# Altium footprint library SN74AXC8T245.PcbLib: 1 footprints
Each footprint in its own frame and in the unit in brackets; x right, y up, seen from the top. Pads: shape width x height; smd on the part's side, far side on the other; paste and mask are expansions set on the pad; w line width, h text height; cw(c..) or ccw(c..) is an arc to the next point about the centre after c.
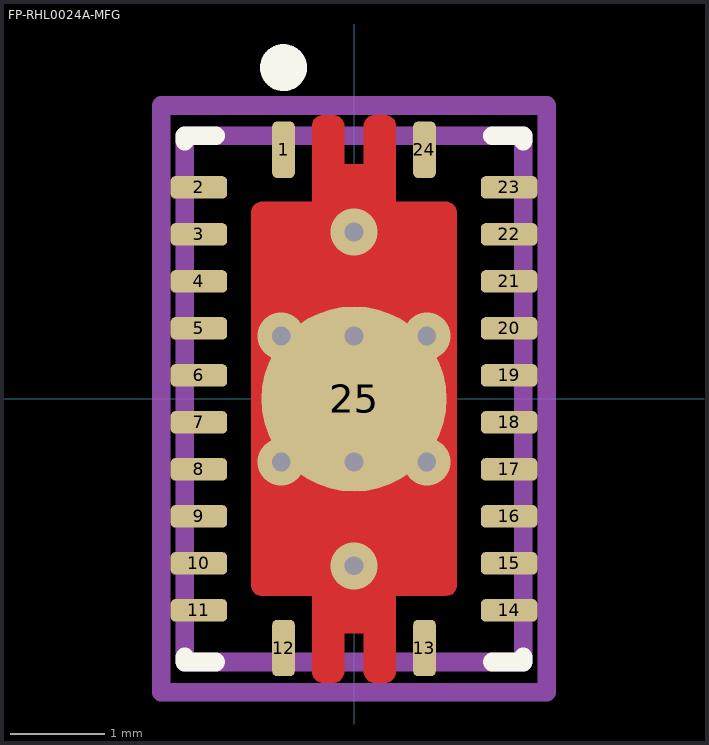
[diagram p0: the footprint, top view; thin cyan lines are the x and y axes]

## FP-RHL0024A-MFG [mm]
pads (25):
  rrect42% 0.24x0.6 smd paste+0 mask+0: 1(-0.75,2.65) 12(-0.75,-2.65) 13(0.75,-2.65) 24(0.75,2.65)
  rrect42% 0.6x0.24 smd paste+0 mask+0: 2(-1.65,2.25) 3(-1.65,1.75) 4(-1.65,1.25) 5(-1.65,0.75) 6(-1.65,0.25) 7(-1.65,-0.25) 8(-1.65,-0.75) 9(-1.65,-1.25) 10(-1.65,-1.75) 11(-1.65,-2.25) 14(1.65,-2.25) 15(1.65,-1.75) 16(1.65,-1.25) 17(1.65,-0.75) 18(1.65,-0.25) 19(1.65,0.25) 20(1.65,0.75) 21(1.65,1.25) 22(1.65,1.75) 23(1.65,2.25)
  round 1.971 smd paste-1000 mask-1000: 25(0,0)
via 0.775,-0.67 diameter 0.5 hole 0.2
via 0,-0.67 diameter 0.5 hole 0.2
via -0.775,-0.67 diameter 0.5 hole 0.2
via 0.775,0.67 diameter 0.5 hole 0.2
via 0,0.67 diameter 0.5 hole 0.2
via -0.775,0.67 diameter 0.5 hole 0.2
via 0,-1.775 diameter 0.5 hole 0.2
via 0,1.775 diameter 0.5 hole 0.2
Top Layer:
  region: -1.095,-1.975 -1.095,1.975 -1.095,1.999 -1.077,2.043 -1.043,2.077 -0.999,2.095 -0.975,2.095 -0.445,2.095 -0.445,2.9 -0.445,2.924 -0.427,2.968 -0.393,3.002 -0.349,3.02 -0.325,3.02 -0.225,3.02 -0.201,3.02 -0.157,3.002 -0.123,2.968 -0.105,2.924 -0.105,2.9 -0.105,2.495 0.105,2.495 0.105,2.9 0.105,2.924 0.123,2.968 0.157,3.002 0.201,3.02 0.225,3.02 0.325,3.02 0.349,3.02 0.393,3.002 0.427,2.968 0.445,2.924 0.445,2.9 0.445,2.095 0.975,2.095 0.999,2.095 1.043,2.077 1.077,2.043 1.095,1.999 1.095,1.975 1.095,-1.975 1.095,-1.999 1.077,-2.043 1.043,-2.077 0.999,-2.095 0.975,-2.095 0.445,-2.095 0.445,-2.9 0.445,-2.924 0.427,-2.968 0.393,-3.002 0.349,-3.02 0.325,-3.02 0.225,-3.02 0.201,-3.02 0.157,-3.002 0.123,-2.968 0.105,-2.924 0.105,-2.9 0.105,-2.495 -0.105,-2.495 -0.105,-2.9 -0.105,-2.924 -0.123,-2.968 -0.157,-3.002 -0.201,-3.02 -0.225,-3.02 -0.325,-3.02 -0.349,-3.02 -0.393,-3.002 -0.427,-2.968 -0.445,-2.924 -0.445,-2.9 -0.445,-2.095 -0.975,-2.095 -0.999,-2.095 -1.043,-2.077 -1.077,-2.043 -1.095,-1.999
Top Overlay:
  circle w0.25: c-0.75,3.525 r0.125
  lines w0.2: -1.8,-2.745 -1.8,-2.8 -1.47,-2.8 ; -1.8,2.745 -1.8,2.8 -1.47,2.8 ; 1.47,-2.8 1.8,-2.8 1.8,-2.745 ; 1.47,2.8 1.8,2.8 1.8,2.745
Top Paste:
  drawing of 8 lines, arcs and shapes, not listed
Top Solder:
  region: -1.025,-1.975 -1.025,1.975 -1.025,1.985 -1.017,2.003 -1.003,2.017 -0.985,2.025 -0.975,2.025 -0.375,2.025 -0.375,2.9 -0.375,2.91 -0.367,2.928 -0.353,2.942 -0.335,2.95 -0.325,2.95 -0.225,2.95 -0.215,2.95 -0.197,2.942 -0.183,2.928 -0.175,2.91 -0.175,2.9 -0.175,2.425 0.175,2.425 0.175,2.9 0.175,2.91 0.183,2.928 0.197,2.942 0.215,2.95 0.225,2.95 0.325,2.95 0.335,2.95 0.353,2.942 0.367,2.928 0.375,2.91 0.375,2.9 0.375,2.025 0.975,2.025 0.985,2.025 1.003,2.017 1.017,2.003 1.025,1.985 1.025,1.975 1.025,-1.975 1.025,-1.985 1.017,-2.003 1.003,-2.017 0.985,-2.025 0.975,-2.025 0.375,-2.025 0.375,-2.9 0.375,-2.91 0.367,-2.928 0.353,-2.942 0.335,-2.95 0.325,-2.95 0.225,-2.95 0.215,-2.95 0.197,-2.942 0.183,-2.928 0.175,-2.91 0.175,-2.9 0.175,-2.425 -0.175,-2.425 -0.175,-2.9 -0.175,-2.91 -0.183,-2.928 -0.197,-2.942 -0.215,-2.95 -0.225,-2.95 -0.325,-2.95 -0.335,-2.95 -0.353,-2.942 -0.367,-2.928 -0.375,-2.91 -0.375,-2.9 -0.375,-2.025 -0.975,-2.025 -0.985,-2.025 -1.003,-2.017 -1.017,-2.003 -1.025,-1.985
Top Assembly:
  lines w0.2: -2.05,-3.12 -2.05,3.12 2.05,3.12 2.05,-3.12 -2.05,-3.12
  text ".Designator" at 0,0.187 h1
Top 3D Body:
  lines w0.2: -1.8,-2.8 -1.8,2.8 1.8,2.8 1.8,-2.8 -1.8,-2.8
Top Courtyard:
  lines w0.2: -2.05,-3.12 -2.05,3.12 2.05,3.12 2.05,-3.12 -2.05,-3.12
Top Component Center:
  lines w0.1: -0.5,0 0.5,0 ; 0,-0.5 0,0.5
3D body "IC_Texas_Instruments_SN74AXC8T245RHLR_eec.STEP": height 0.25, standoff 0, extent -2.05,-3.12 2.05,3.12